# Altium schematic symbol library Schlib1.SchLib: 38 symbols
Pins are listed as number, name and electrical type; pins without a type are passive.

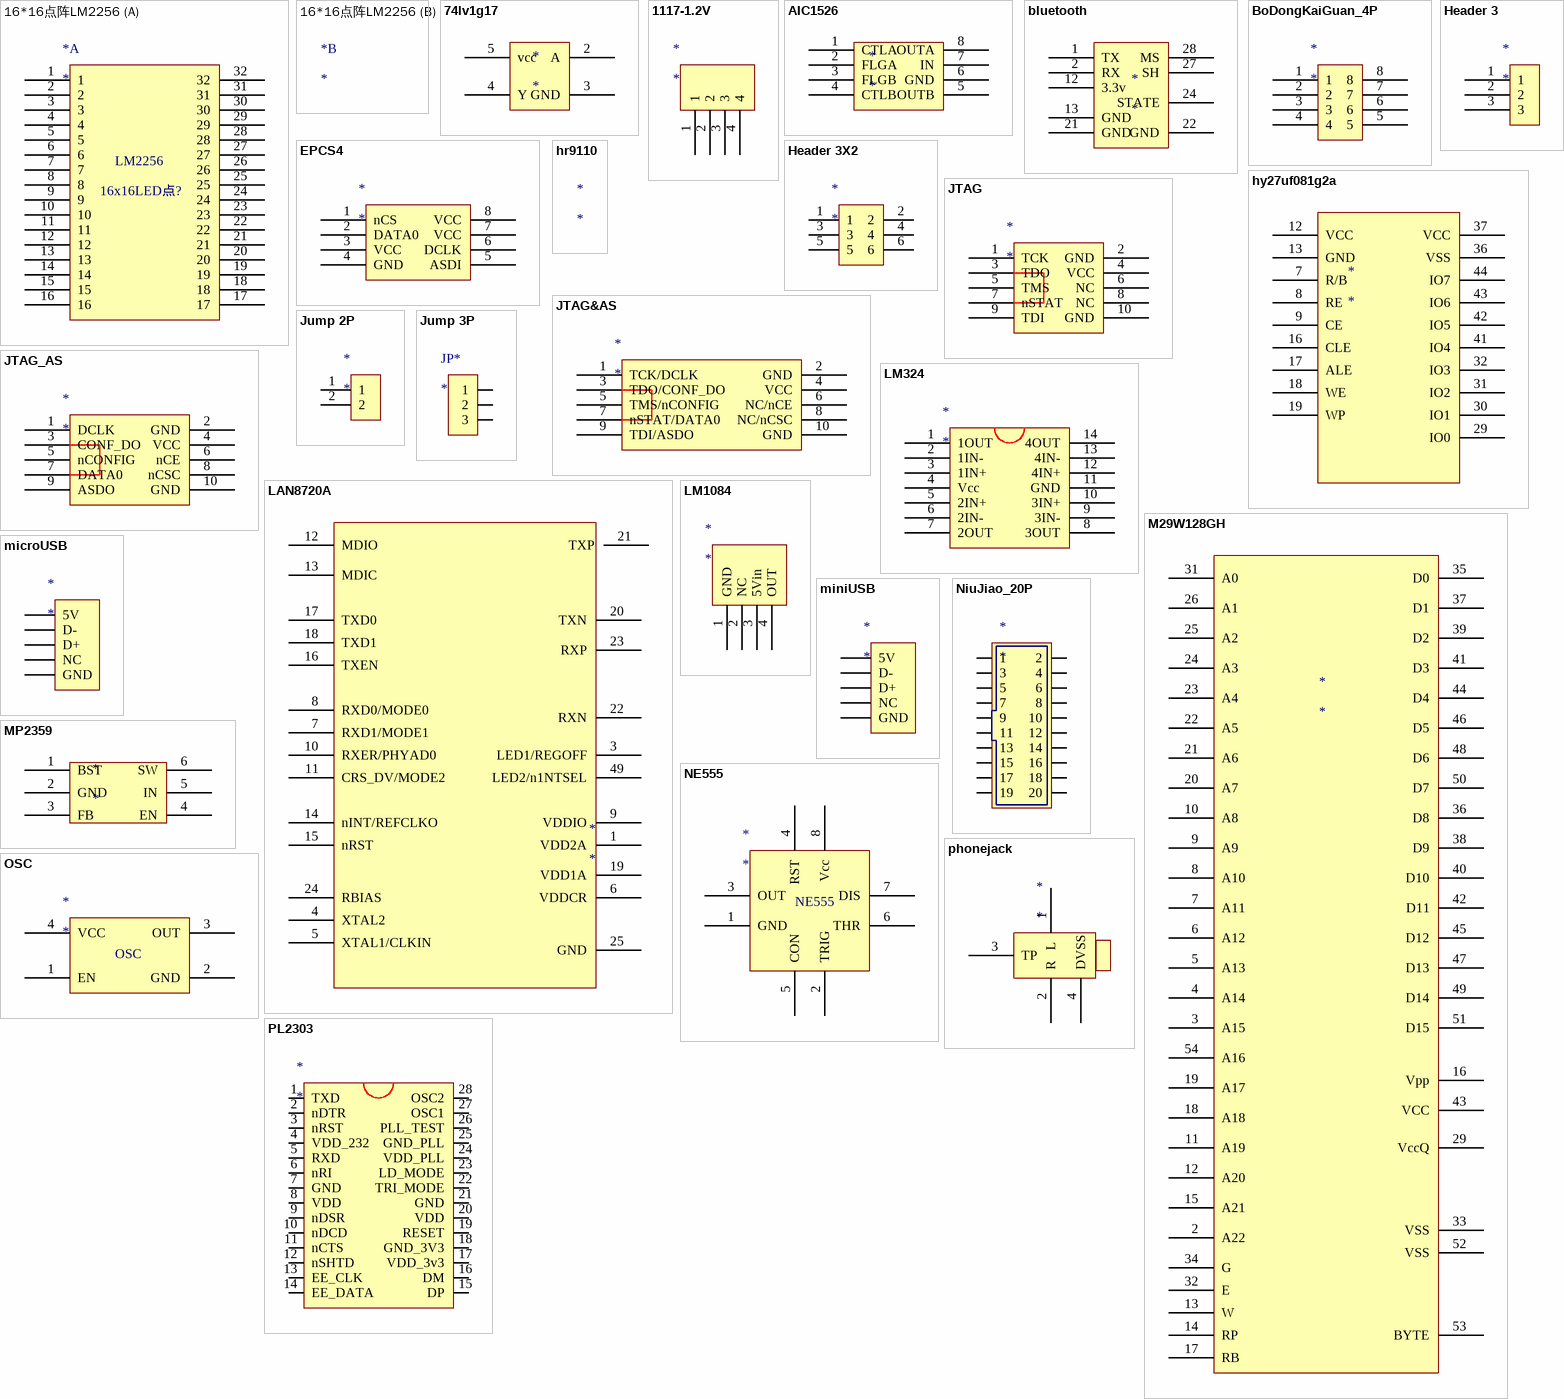
[diagram p0: symbols 16*16点阵LM2256 to PL2303]

## 16*16点阵LM2256
designator *
part A pins: 1, 2, 3, 4, 5, 6, 7, 8, 9, 10, 11, 12, 13, 14, 15, 16, 17, 18, 19, 20, 21, 22, 23, 24, 25, 26, 27, 28, 29, 30, 31, 32
part A text: LM2256; 16x16LED点?

## 74lv1g17
designator *
pins: 2 A, 3 GND, 4 Y, 5 vcc

## 1117-1.2V
designator *
pins: 1, 2, 3, 4

## AIC1526
designator *
pins: 1 CTLA, 2 FLGA, 3 FLGB, 4 CTLB, 5 OUTB, 6 GND, 7 IN, 8 OUTA

## bluetooth
designator *
pins: 1 TX, 2 RX, 12 3.3v, 13 GND, 21 GND, 22 GND, 24 STATE, 27 SH, 28 MS

## BoDongKaiGuan_4P
designator *
pins: 1, 2, 3, 4, 5, 6, 7, 8

## EPCS4
designator *
pins: 1 nCS, 2 DATA0, 3 VCC, 4 GND, 5 ASDI, 6 DCLK, 7 VCC, 8 VCC

## Header 3
designator *
pins: 1, 2, 3

## Header 3X2
designator *
pins: 1, 2, 3, 4, 5, 6

## hr9110
designator *

## hy27uf081g2a
designator *
pins: 7 R/B, 8 RE, 9 CE, 12 VCC, 13 GND, 16 CLE, 17 ALE, 18 WE, 19 WP, 29 IO0, 30 IO1, 31 IO2, 32 IO3, 36 VSS, 37 VCC, 41 IO4, 42 IO5, 43 IO6, 44 IO7

## JTAG
designator *
pins: 1 TCK, 2 GND, 3 TDO, 4 VCC, 5 TMS, 6 NC, 7 nSTAT, 8 NC, 9 TDI, 10 GND

## JTAG&AS
designator *
pins: 1 TCK/DCLK, 2 GND, 3 TDO/CONF_DO, 4 VCC, 5 TMS/nCONFIG, 6 NC/nCE, 7 nSTAT/DATA0, 8 NC/nCSC, 9 TDI/ASDO, 10 GND

## JTAG_AS
designator *
pins: 1 DCLK, 2 GND, 3 CONF_DO, 4 VCC, 5 nCONFIG, 6 nCE, 7 DATA0, 8 nCSC, 9 ASDO, 10 GND

## Jump 2P
designator *
pins: 1, 2

## Jump 3P
designator JP*
pins: 1, 2, 3

## LAN8720A
designator *
pins: 1 VDD2A, 3 LED1/REGOFF, 4 XTAL2, 5 XTAL1/CLKIN, 6 VDDCR, 7 RXD1/MODE1, 8 RXD0/MODE0, 9 VDDIO, 10 RXER/PHYAD0, 11 CRS_DV/MODE2, 12 MDIO, 13 MDIC, 14 nINT/REFCLKO, 15 nRST, 16 TXEN, 17 TXD0, 18 TXD1, 19 VDD1A, 20 TXN, 21 TXP, 22 RXN, 23 RXP, 24 RBIAS, 25 GND, 49 LED2/n1NTSEL

## LM324
designator *
pins: 1 1OUT, 2 1IN-, 3 1IN+, 4 Vcc, 5 2IN+, 6 2IN-, 7 2OUT, 8 3OUT, 9 3IN-, 10 3IN+, 11 GND, 12 4IN+, 13 4IN-, 14 4OUT

## LM1084
designator *
pins: 1 GND, 2 NC, 3 5Vin, 4 OUT

## M29W128GH
designator *
pins: 2 A22, 3 A15, 4 A14, 5 A13, 6 A12, 7 A11, 8 A10, 9 A9, 10 A8, 11 A19, 12 A20, 13 W, 14 RP, 15 A21, 16 Vpp, 17 RB, 18 A18, 19 A17, 20 A7, 21 A6, 22 A5, 23 A4, 24 A3, 25 A2, 26 A1, 29 VccQ, 31 A0, 32 E, 33 VSS, 34 G, 35 D0, 36 D8, 37 D1, 38 D9, 39 D2, 40 D10, 41 D3, 42 D11, 43 VCC, 44 D4, 45 D12, 46 D5, 47 D13, 48 D6, 49 D14, 50 D7, 51 D15, 52 VSS, 53 BYTE, 54 A16

## microUSB
designator *
pins: 1 5V, 2 D-, 3 D+, 4 NC, 5 GND

## miniUSB
designator *
pins: 1 5V, 2 D-, 3 D+, 4 NC, 5 GND

## MP2359
designator *
pins: 1 BST, 2 GND, 3 FB, 4 EN, 5 IN, 6 SW

## NE555
designator *
pins: 1 GND, 2 TRIG, 3 OUT, 4 RST, 5 CON, 6 THR, 7 DIS, 8 Vcc

## NiuJiao_20P
designator *
pins: 1, 2, 3, 4, 5, 6, 7, 8, 9, 10, 11, 12, 13, 14, 15, 16, 17, 18, 19, 20

## OSC
designator *
pins: 1 EN, 2 GND, 3 OUT, 4 VCC

## phonejack
designator *
pins: 1 L, 2 R, 3 TP, 4 DVSS

## PL2303
designator *
pins: 1 TXD, 2 nDTR, 3 nRST, 4 VDD_232, 5 RXD, 6 nRI, 7 GND, 8 VDD, 9 nDSR, 10 nDCD, 11 nCTS, 12 nSHTD, 13 EE_CLK, 14 EE_DATA, 15 DP, 16 DM, 17 VDD_3v3, 18 GND_3V3, 19 RESET, 20 VDD, 21 GND, 22 TRI_MODE, 23 LD_MODE, 24 VDD_PLL, 25 GND_PLL, 26 PLL_TEST, 27 OSC1, 28 OSC2

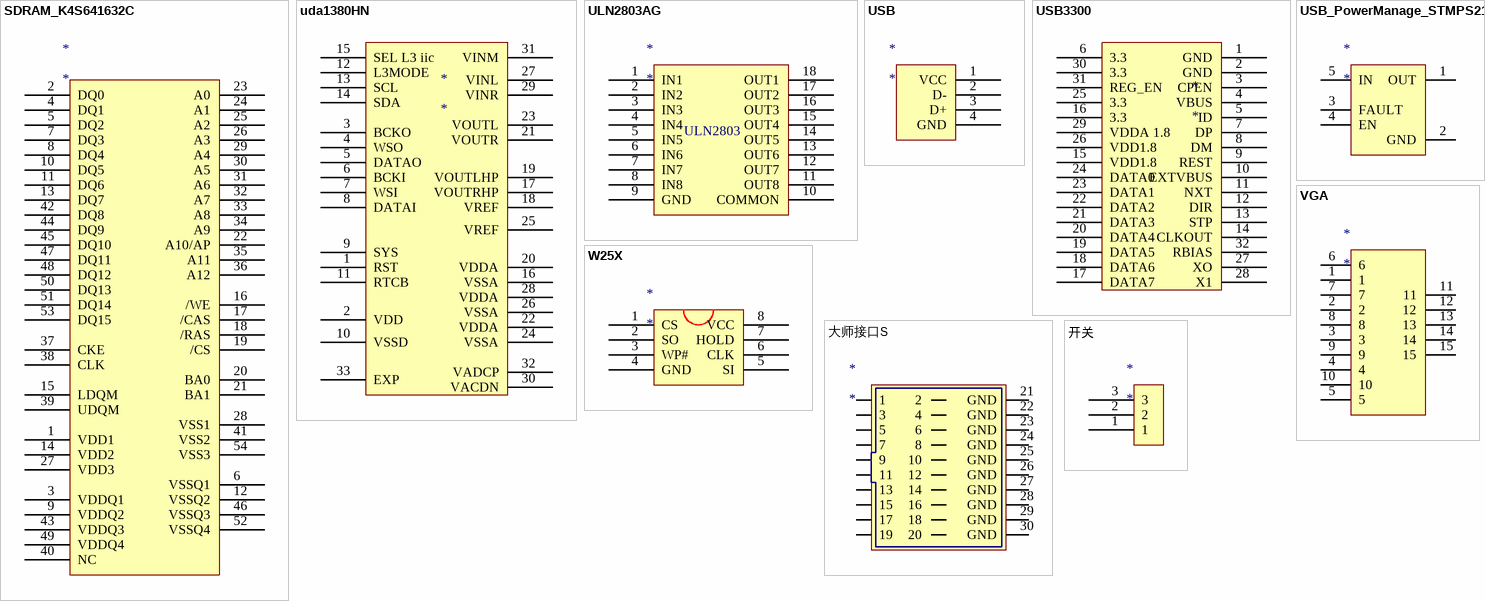
[diagram p1: symbols SDRAM_K4S641632C to 开关]

## SDRAM_K4S641632C
designator *
pins: 1 VDD1, 2 DQ0, 3 VDDQ1, 4 DQ1, 5 DQ2, 6 VSSQ1, 7 DQ3, 8 DQ4, 9 VDDQ2, 10 DQ5, 11 DQ6, 12 VSSQ2, 13 DQ7, 14 VDD2, 15 LDQM, 16 /WE, 17 /CAS, 18 /RAS, 19 /CS, 20 BA0, 21 BA1, 22 A10/AP, 23 A0, 24 A1, 25 A2, 26 A3, 27 VDD3, 28 VSS1, 29 A4, 30 A5, 31 A6, 32 A7, 33 A8, 34 A9, 35 A11, 36 A12, 37 CKE, 38 CLK, 39 UDQM, 40 NC, 41 VSS2, 42 DQ8, 43 VDDQ3, 44 DQ9, 45 DQ10, 46 VSSQ3, 47 DQ11, 48 DQ12, 49 VDDQ4, 50 DQ13, 51 DQ14, 52 VSSQ4, 53 DQ15, 54 VSS3

## uda1380HN
designator *
pins: 1 RST, 2 VDD, 3 BCKO, 4 WSO, 5 DATAO, 6 BCKI, 7 WSI, 8 DATAI, 9 SYS, 10 VSSD, 11 RTCB, 12 L3MODE, 13 SCL, 14 SDA, 15 SEL L3 iic, 16 VSSA, 17 VOUTRHP, 18 VREF, 19 VOUTLHP, 20 VDDA, 21 VOUTR, 22 VDDA, 23 VOUTL, 24 VSSA, 25 VREF, 26 VSSA, 27 VINL, 28 VDDA, 29 VINR, 30 VACDN, 31 VINM, 32 VADCP, 33 EXP

## ULN2803AG
designator *
pins: 1 IN1, 2 IN2, 3 IN3, 4 IN4, 5 IN5, 6 IN6, 7 IN7, 8 IN8, 9 GND, 10 COMMON, 11 OUT8, 12 OUT7, 13 OUT6, 14 OUT5, 15 OUT4, 16 OUT3, 17 OUT2, 18 OUT1
text: ULN2803

## USB
designator *
pins: 1 VCC, 2 D-, 3 D+, 4 GND

## USB3300
designator *
pins: 1 GND, 2 GND, 3 CPEN, 4 VBUS, 5 ID, 6 3.3, 7 DP, 8 DM, 9 REST, 10 EXTVBUS, 11 NXT, 12 DIR, 13 STP, 14 CLKOUT, 15 VDD1.8, 16 3.3, 17 DATA7, 18 DATA6, 19 DATA5, 20 DATA4, 21 DATA3, 22 DATA2, 23 DATA1, 24 DATA0, 25 3.3, 26 VDD1.8, 27 XO, 28 X1, 29 VDDA 1.8, 30 3.3, 31 REG_EN, 32 RBIAS

## USB_PowerManage_STMPS2141
designator *
pins: 1 OUT, 2 GND, 3 FAULT, 4 EN, 5 IN

## VGA
designator *
pins: 1, 2, 3, 4, 5, 6, 7, 8, 9, 10, 11, 12, 13, 14, 15

## W25X
designator *
pins: 1 CS, 2 SO, 3 WP#, 4 GND, 5 SI, 6 CLK, 7 HOLD, 8 VCC

## 大师接口S
designator *
pins: 1, 2, 3, 4, 5, 6, 7, 8, 9, 10, 11, 12, 13, 14, 15, 16, 17, 18, 19, 20, 21 GND, 22 GND, 23 GND, 24 GND, 25 GND, 26 GND, 27 GND, 28 GND, 29 GND, 30 GND

## 开关
designator *
pins: 1, 2, 3